# EAGLE library part GL800AHU35 (library IC)
Genesys GL800AHU35 USB 2.0 UTMI Compliant Transceiver IP Core
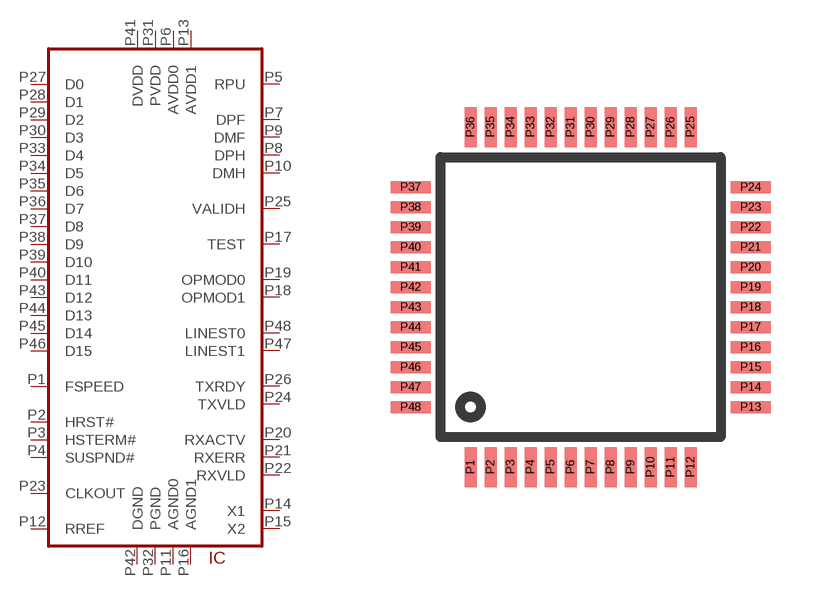
[diagram p85: symbol with the pads of LQFP-48; footprint LQFP-48]

Designator prefix IC

## GL800AHU35-LQ48  [LQFP-48]
P1  FSPEED  in
P2  HRST#  in
P3  HSTERM#  in
P4  SUSPND#  in
P5  RPU
P6  AVDD0  pwr
P7  DPF
P8  DPH
P9  DMF
P10  DMH
P11  AGND0  pwr
P12  RREF
P13  AVDD1  pwr
P14  X1
P15  X2
P16  AGND1  pwr
P17  TEST  in
P18  OPMOD1  in
P19  OPMOD0  in
P20  RXACTV  out
P21  RXERR  out
P22  RXVLD  out
P23  CLKOUT  out
P24  TXVLD
P25  VALIDH
P26  TXRDY  out
P27  D0
P28  D1
P29  D2
P30  D3
P31  PVDD  pwr
P32  PGND  pwr
P33  D4
P34  D5
P35  D6
P36  D7
P37  D8
P38  D9
P39  D10
P40  D11
P41  DVDD  pwr
P42  DGND  pwr
P43  D12
P44  D13
P45  D14
P46  D15
P47  LINEST1  out
P48  LINEST0  out

## Footprint LQFP-48 (pad centres in mm)
LQFP48 package from Genesys (GL800AHU35)
smd 0.3 x 1: P1 -2.75,-4.25; P2 -2.25,-4.25; P3 -1.75,-4.25; P4 -1.25,-4.25; P5 -0.75,-4.25; P6 -0.25,-4.25; P7 0.25,-4.25; P8 0.75,-4.25; P9 1.25,-4.25; P10 1.75,-4.25; P11 2.25,-4.25; P12 2.75,-4.25; P25 2.75,4.25; P26 2.25,4.25; P27 1.75,4.25; P28 1.25,4.25; P29 0.75,4.25; P30 0.25,4.25; P31 -0.25,4.25; P32 -0.75,4.25; P33 -1.25,4.25; P34 -1.75,4.25; P35 -2.25,4.25; P36 -2.75,4.25
smd 1 x 0.3: P13 4.25,-2.75; P14 4.25,-2.25; P15 4.25,-1.75; P16 4.25,-1.25; P17 4.25,-0.75; P18 4.25,-0.25; P19 4.25,0.25; P20 4.25,0.75; P21 4.25,1.25; P22 4.25,1.75; P23 4.25,2.25; P24 4.25,2.75; P37 -4.25,2.75; P38 -4.25,2.25; P39 -4.25,1.75; P40 -4.25,1.25; P41 -4.25,0.75; P42 -4.25,0.25; P43 -4.25,-0.25; P44 -4.25,-0.75; P45 -4.25,-1.25; P46 -4.25,-1.75; P47 -4.25,-2.25; P48 -4.25,-2.75